# EAGLE library part MGB-SCREEN (library Game_Boy)
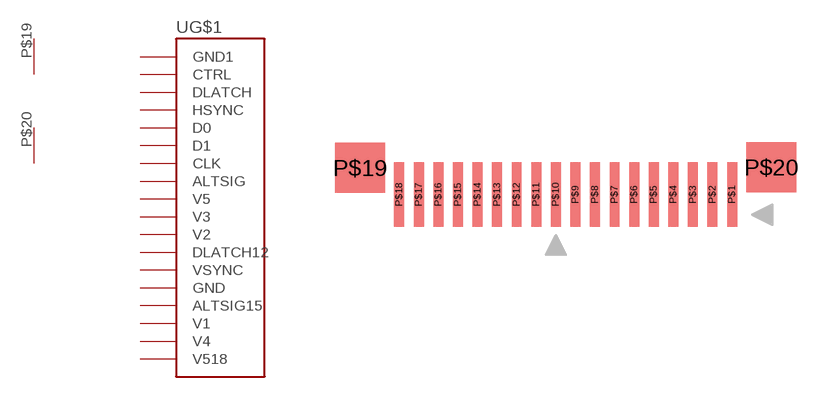
[diagram p8: symbol with the pads of MGB-SCREEN; footprint MGB-SCREEN]

Designator prefix -; gates G$1=MGB-SCREEN G$2=PWRGND G$3=PWRGND

## MGB-SCREEN  [MGB-SCREEN]
P$1  G$1:GND1
P$2  G$1:CTRL
P$3  G$1:DLATCH
P$4  G$1:HSYNC
P$5  G$1:D0
P$6  G$1:D1
P$7  G$1:CLK
P$8  G$1:ALTSIG
P$9  G$1:V5
P$10  G$1:V3
P$11  G$1:V2
P$12  G$1:DLATCH12
P$13  G$1:VSYNC
P$14  G$1:GND
P$15  G$1:ALTSIG15
P$16  G$1:V1
P$17  G$1:V4
P$18  G$1:V518
P$19  G$2:GND  pwr
P$20  G$3:GND  pwr

## Footprint MGB-SCREEN (pad centres in mm)
smd 0.508 x 3.302: P$1 8.5,0; P$2 7.5,0; P$3 6.5,0; P$4 5.5,0; P$5 4.5,0; P$6 3.5,0; P$7 2.5,0; P$8 1.5,0; P$9 0.5,0; P$10 -0.5,0; P$11 -1.5,0; P$12 -2.5,0; P$13 -3.5,0; P$14 -4.5,0; P$15 -5.5,0; P$16 -6.5,0; P$17 -7.5,0; P$18 -8.5,0
smd 2.54 x 2.54: P$19 -10.5,1.367; P$20 10.5,1.397